# EAGLE library part 2X10 (library barthess)
Standard 10x2 JTAG header for ARM.
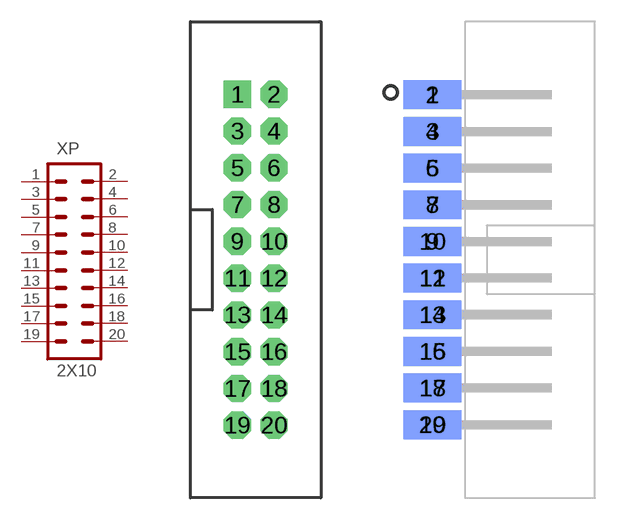
[diagram p5: symbol with the pads of PLD_2X10_SHROUDED; footprints PLD_2X10_SHROUDED, PLD_2X10_PSEUDOSMD]

Designator prefix XP

## 2X10-SHROUDED  [PLD_2X10_SHROUDED]
1  1  pas
2  2  pas
3  3  pas
4  4  pas
5  5  pas
6  6  pas
7  7  pas
8  8  pas
9  9  pas
10  10  pas
11  11  pas
12  12  pas
13  13  pas
14  14  pas
15  15  pas
16  16  pas
17  17  pas
18  18  pas
19  19  pas
20  20  pas

## 2X10-PSEUDO_SMD  [PLD_2X10_PSEUDOSMD]
Pads as for PLD_2X10_SHROUDED

## Footprint PLD_2X10_SHROUDED (pad centres in mm)
drill 1.016 pad 1.88 square: 1 -1.27,11.43
drill 1.016 pad 1.88 octagon: 2 1.27,11.43; 3 -1.27,8.89; 4 1.27,8.89; 5 -1.27,6.35; 6 1.27,6.35; 7 -1.27,3.81; 8 1.27,3.81; 9 -1.27,1.27; 10 1.27,1.27; 11 -1.27,-1.27; 12 1.27,-1.27; 13 -1.27,-3.81; 14 1.27,-3.81; 15 -1.27,-6.35; 16 1.27,-6.35; 17 -1.27,-8.89; 18 1.27,-8.89; 19 -1.27,-11.43; 20 1.27,-11.43

## Footprint PLD_2X10_PSEUDOSMD (pad centres in mm)
smd 4 x 2: 1 0,11.43; 3 0,8.89; 5 0,6.35; 7 0,3.81; 9 0,1.27; 11 0,-1.27; 13 0,-3.81; 15 0,-6.35; 17 0,-8.89; 19 0,-11.43
smd 4 x 2 bottom: 2 0,11.43; 4 0,8.89; 6 0,6.35; 8 0,3.81; 10 0,1.27; 12 0,-1.27; 14 0,-3.81; 16 0,-6.35; 18 0,-8.89; 20 0,-11.43